# EAGLE library part BLE113-A (library jnode)
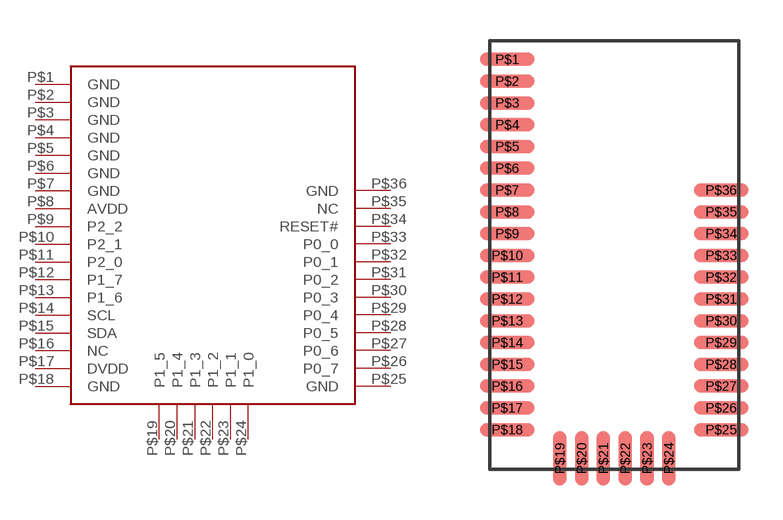
[diagram p6: symbol with the pads of BLE113-A; footprint BLE113-A]

Designator prefix -

## BLE113-A  [BLE113-A]
P$1  GND
P$2  GND
P$3  GND
P$4  GND
P$5  GND
P$6  GND
P$7  GND
P$8  AVDD
P$9  P2_2
P$10  P2_1
P$11  P2_0
P$12  P1_7
P$13  P1_6
P$14  SCL
P$15  SDA
P$16  NC  nc
P$17  DVDD
P$18  GND
P$19  P1_5
P$20  P1_4
P$21  P1_3
P$22  P1_2
P$23  P1_1
P$24  P1_0
P$25  GND
P$26  P0_7
P$27  P0_6
P$28  P0_5
P$29  P0_4
P$30  P0_3
P$31  P0_2
P$32  P0_1
P$33  P0_0
P$34  RESET#
P$35  NC  nc
P$36  GND

## Footprint BLE113-A (pad centres in mm)
smd 2 x 0.5: P$1 0.65,15.05; P$2 0.65,14.25; P$3 0.65,13.45; P$4 0.65,12.65; P$5 0.65,11.85; P$6 0.65,11.05; P$7 0.65,10.25; P$8 0.65,9.45; P$9 0.65,8.65; P$10 0.65,7.85; P$11 0.65,7.05; P$12 0.65,6.25; P$13 0.65,5.45; P$14 0.65,4.65; P$15 0.65,3.85; P$16 0.65,3.05; P$17 0.65,2.25; P$18 0.65,1.45; P$25 8.5,1.45; P$26 8.5,2.25; P$27 8.5,3.05; P$28 8.5,3.85; P$29 8.5,4.65; P$30 8.5,5.45; P$31 8.5,6.25; P$32 8.5,7.05; P$33 8.5,7.85; P$34 8.5,8.65; P$35 8.5,9.45; P$36 8.5,10.25
smd 0.5 x 2: P$19 2.575,0.4; P$20 3.375,0.4; P$21 4.175,0.4; P$22 4.975,0.4; P$23 5.775,0.4; P$24 6.575,0.4